# Altium footprint library RP2040.PcbLib: 12 footprints
Each footprint in its own frame and in the unit in brackets; x right, y up, seen from the top. Pads: shape width x height; smd on the part's side, far side on the other; paste and mask are expansions set on the pad; w line width, h text height; cw(c..) or ccw(c..) is an arc to the next point about the centre after c.
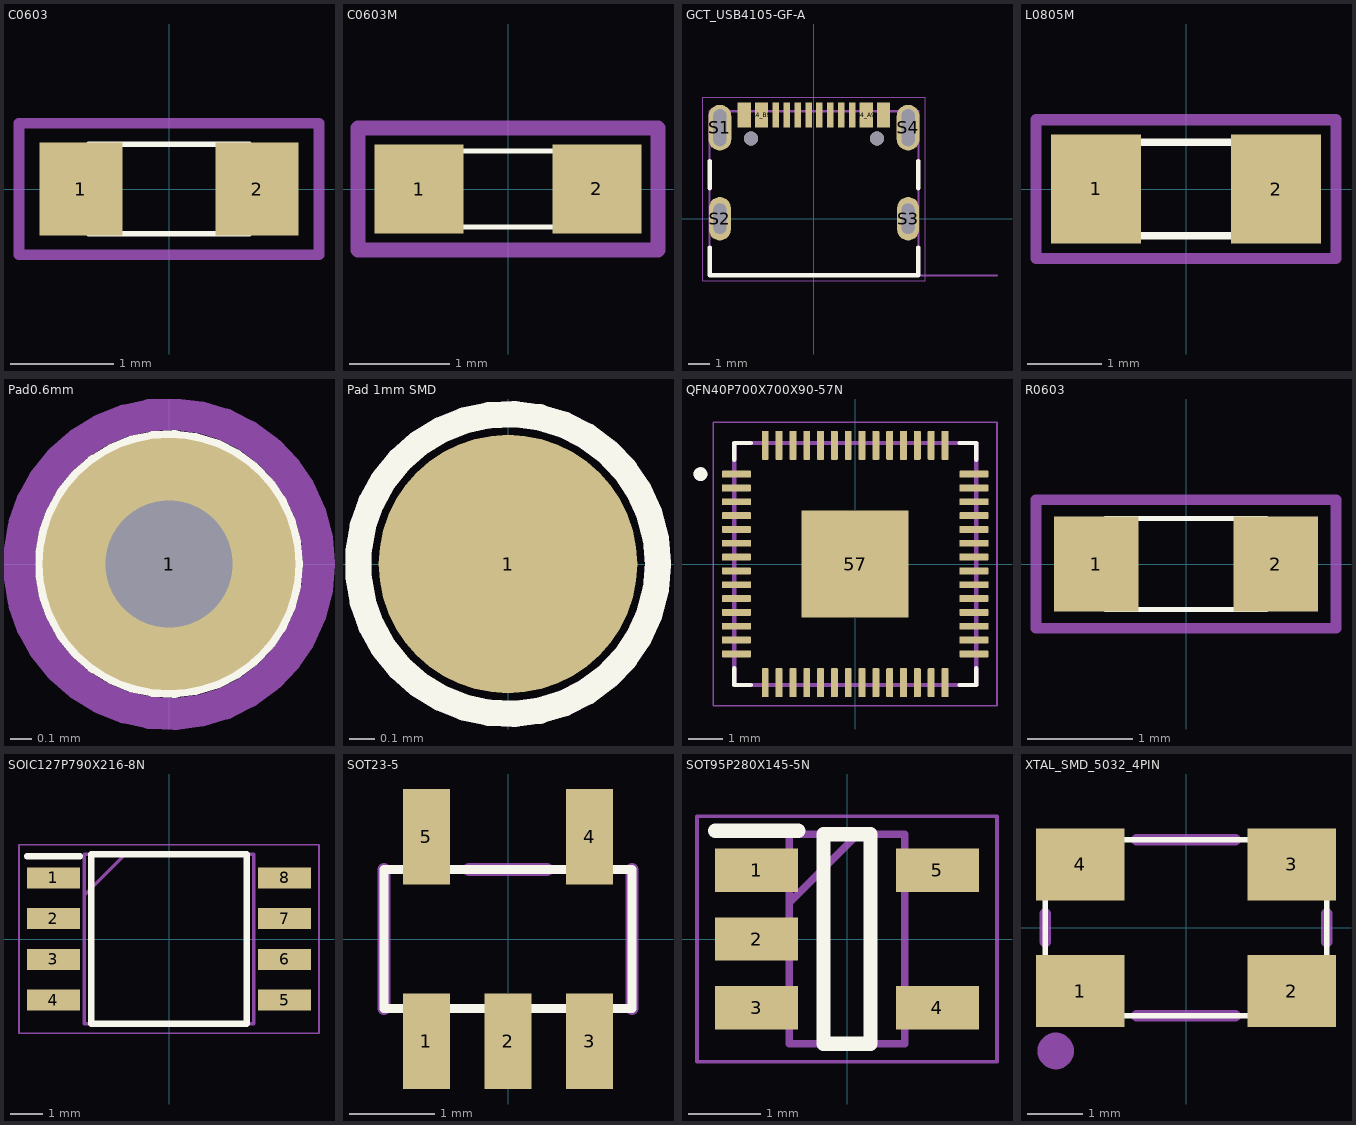
[diagram p0: the footprints below, top view; thin cyan lines are the x and y axes]

## C0603 [mm] "Chip Capacitor 0603"
height 1.1
pads (2):
  rect 0.8x0.9 smd: 1(-0.85,0) 2(0.85,0)
Top Overlay:
  lines w0.051: -0.775,-0.432 0.775,-0.432 0.775,0.432 -0.775,0.432 -0.775,-0.432
Mechanical 17:
  lines w0.102: -1.448,-0.635 -1.448,0.635 1.448,0.635 1.448,-0.635 -1.448,-0.635
  text ".Designator" at -0.723,0.635 h0.64
3D body "User Library-cap_0603_lowprofile.STEP": height 0.6, standoff 0, extent -0.8,-0.4 0.8,0.4

## C0603M [mil]
pads (2):
  rect 35x35 smd mask+2: 1(-35,0) 2(35,0)
Top Overlay:
  lines w2: -30,-15 -30,15 30,15 30,-15 -30,-15
Mechanical 17:
  lines w6: -59,-24 59,-24 59,24 -59,24 -59,-24
  text ".Designator" at -55,35 h30
3D body "User Library-CAP_0603.step": height 35.43, standoff 0, extent -31.49,-15.75 31.5,15.75

## GCT_USB4105-GF-A [mm]
pads (18):
  rect 0.6x1.15 smd: A1_B12(-3.2,4.755) A4_B9(-2.4,4.755) B1_A12(3.2,4.755) B4_A9(2.4,4.755)
  rect 0.3x1.15 smd: A5(-1.25,4.755) A6(-0.25,4.755) A7(0.25,4.755) A8(1.25,4.755) B5(1.75,4.755) B6(0.75,4.755) B7(-0.75,4.755) B8(-1.75,4.755)
  oval 1.05x2.1 hole 0.6 slot 1.7 at 90 deg: S1(-4.32,4.18) S4(4.32,4.18)
  oval 1x2 hole 0.6 slot 1.4 at 90 deg: S2(-4.32,0) S3(4.32,0)
  round 0.65 hole 0.65 unplated: ""(-2.89,3.68) ""(2.89,3.68)
Top Overlay:
  lines w0.2: -4.79,-1.32 -4.79,-2.6 4.79,-2.6 4.79,-1.32 ; -4.79,1.4 -4.79,2.65 ; 4.79,1.4 4.79,2.65
Mechanical 13:
  lines w0.1: 4.8,-2.6 8.4,-2.6 ; -4.79,-2.6 -4.79,4.93 4.79,4.93 4.79,-2.6 -4.79,-2.6
Mechanical 15:
  lines w0.05: -5.1,-2.85 5.1,-2.85 5.1,5.58 -5.1,5.58 -5.1,-2.85
3D body "step_temp.STEP": height 3.31, standoff -0.85, extent -4.79,-3.855 4.79,3.855

## L0805M [mil] "Chip inductor 0805"
pads (2):
  rect 48x58 smd: 1(-48,0) 2(48,0)
Top Overlay:
  lines w4: -40,-25 40,-25 40,25 -40,25 -40,-25
Mechanical 17:
  lines w6: -80,-37 80,-37 80,37 -80,37 -80,-37
  text ".Designator" at -45,49 h30
3D body "User Library-Inductor_0805.step": height 51.18, standoff 0, extent -39.37,-23.62 39.37,23.62

## Pad0.6mm [mm] "Pad (neosazuje se)"
pads (1):
  round 1.2 hole 0.6: 1(0,0)
Top Overlay:
  circle w0.051: c0,0 r0.305
  circle w0.102: c0,0 r0.584
Mechanical 1:
  circle w0.025: c0,0 r0.3
Top Courtyard:
  circle w0: c0,0 r0.6
Mechanical 17:
  circle w0.152: c0,0 r0.711
  text ".Designator" at -2.409,1.086 h0.8

## Pad 1mm SMD [mm] "Pad (neosazuje se)"
pads (1):
  round 1 smd mask+0.051: 1(0,0)
Top Overlay:
  circle w0.102: c0,0 r0.58
Mechanical 17:
  circle w0.1: c0,0 r0.58
  text ".Designator" at -0.838,0.965 h0.8

## QFN40P700X700X90-57N [mm]
pads (57):
  rrect25% 0.84x0.2 smd: 1(-3.435,2.6) 2(-3.435,2.2) 3(-3.435,1.8) 4(-3.435,1.4) 5(-3.435,1) 6(-3.435,0.6) 7(-3.435,0.2) 8(-3.435,-0.2) 9(-3.435,-0.6) 10(-3.435,-1) 11(-3.435,-1.4) 12(-3.435,-1.8) 13(-3.435,-2.2) 14(-3.435,-2.6) 29(3.435,-2.6) 30(3.435,-2.2) 31(3.435,-1.8) 32(3.435,-1.4) 33(3.435,-1) 34(3.435,-0.6) 35(3.435,-0.2) 36(3.435,0.2) 37(3.435,0.6) 38(3.435,1) 39(3.435,1.4) 40(3.435,1.8) 41(3.435,2.2) 42(3.435,2.6)
  rrect25% 0.2x0.84 smd: 15(-2.6,-3.435) 16(-2.2,-3.435) 17(-1.8,-3.435) 18(-1.4,-3.435) 19(-1,-3.435) 20(-0.6,-3.435) 21(-0.2,-3.435) 22(0.2,-3.435) 23(0.6,-3.435) 24(1,-3.435) 25(1.4,-3.435) 26(1.8,-3.435) 27(2.2,-3.435) 28(2.6,-3.435) 43(2.6,3.435) 44(2.2,3.435) 45(1.8,3.435) 46(1.4,3.435) 47(1,3.435) 48(0.6,3.435) 49(0.2,3.435) 50(-0.2,3.435) 51(-0.6,3.435) 52(-1,3.435) 53(-1.4,3.435) 54(-1.8,3.435) 55(-2.2,3.435) 56(-2.6,3.435)
  rect 3.1x3.1 smd paste-0.57: 57(0,0)
Top Overlay:
  circle w0.2: c-4.475,2.6 r0.1
  lines w0.127: -3.5,-3.02 -3.5,-3.5 -3.02,-3.5 ; -3.5,3.02 -3.5,3.5 -3.02,3.5 ; 3.02,-3.5 3.5,-3.5 3.5,-3.02 ; 3.02,3.5 3.5,3.5 3.5,3.02
Mechanical 13:
  circle w0.2: c-4.475,2.6 r0.1
  lines w0.127: -3.5,-3.5 3.5,-3.5 3.5,3.5 -3.5,3.5 -3.5,-3.5
Mechanical 15:
  lines w0.05: -4.105,-4.105 4.105,-4.105 4.105,4.105 -4.105,4.105 -4.105,-4.105
3D body "step_temp.STEP": height 0.9, standoff 0, extent -3.876,-3.876 3.876,3.876

## R0603 [mm] "Chip Resistor 0603"
height 1.1
pads (2):
  rect 0.8x0.9 smd: 1(-0.85,0) 2(0.85,0)
Top Overlay:
  lines w0.051: -0.762,-0.432 0.762,-0.432 0.762,0.432 -0.762,0.432 -0.762,-0.432
Mechanical 17:
  lines w0.102: -1.422,-0.61 -1.422,0.61 1.422,0.61 1.422,-0.61 -1.422,-0.61
  text ".Designator" at -0.686,0.813 h0.64
3D body "User Library-res0603-1.STEP": height 0.4, standoff 0, extent -0.8,-0.4 0.8,0.4

## SOIC127P790X216-8N [mm]
pads (8):
  rect 1.65x0.65 smd: 1(-3.6,1.905) 2(-3.6,0.635) 3(-3.6,-0.635) 4(-3.6,-1.905) 5(3.6,-1.905) 6(3.6,-0.635) 7(3.6,0.635) 8(3.6,1.905)
Top Overlay:
  lines w0.2: -4.425,2.58 -2.775,2.58 ; -2.425,-2.64 -2.425,2.64 2.425,2.64 2.425,-2.64 -2.425,-2.64
Mechanical 13:
  lines w0.1: -2.64,1.37 -1.37,2.64 ; -2.64,-2.64 -2.64,2.64 2.64,2.64 2.64,-2.64 -2.64,-2.64
Mechanical 15:
  lines w0.05: -4.675,-2.94 -4.675,2.94 4.675,2.94 4.675,-2.94 -4.675,-2.94
3D body "W25Q64JVSSIQ.stp": height 2.16, standoff 0, extent -3.95,-2.64 3.95,2.64

## SOT23-5 [mil] "0,95 rozteè, 0,4mm mezera, 2.9x1,6mm"
pads (5):
  rect 21.65x44 smd mask+2: 1(-37.5,-47) 2(0,-47) 3(37.5,-47) 4(37.5,47) 5(-37.5,47)
Top Overlay:
  lines w4: -45.5,-32 -45.5,-56 -29.5,-56 -29.5,-32 ; -45.5,32 -45.5,56 -29.5,56 -29.5,32 ; -8,-32 -8,-56 8,-56 8,-32 ; 29.5,-32 29.5,-56 45.5,-56 45.5,-32 ; 29.5,32 29.5,56 45.5,56 45.5,32 ; -57,-32 57,-32 57,32 -57,32 -57,-32
Mechanical 17:
  lines w6: -57,-32 -57,32 ; -18,32 18,32 ; 57,-32 57,32
  text ".Designator" at -81,-74 h27.56
3D body "User Library-SOT-23-5.STEP": height 56.69, standoff -0.8, extent -59.06,-58.43 59.05,59.68

## SOT95P280X145-5N [mm]
pads (5):
  rect 1.15x0.6 smd: 1(-1.25,0.95) 2(-1.25,0) 3(-1.25,-0.95) 4(1.25,-0.95) 5(1.25,0.95)
Top Overlay:
  lines w0.2: -1.825,1.5 -0.675,1.5 ; -0.325,-1.45 0.325,-1.45 0.325,1.45 -0.325,1.45 -0.325,-1.45
Mechanical 13:
  lines w0.1: -0.8,0.5 0.15,1.45 ; -0.8,-1.45 0.8,-1.45 0.8,1.45 -0.8,1.45 -0.8,-1.45
Mechanical 15:
  lines w0.05: -2.075,-1.7 2.075,-1.7 2.075,1.7 -2.075,1.7 -2.075,-1.7
3D body "MIC3490-3.0YM5-TR.stp": height 1.45, standoff 0, extent -1.4,-1.45 1.4,1.45

## XTAL_SMD_5032_4PIN [mil]
pads (4):
  rect 63x51 smd: 1(-75,-45) 2(75,-45) 3(75,45) 4(-75,45)
Top Overlay:
  region: -100,-62.5 -82.5,-62.5 -100,-45
  lines w4: -100,-42.5 -80,-62.5 ; -100,-62.5 -100,62.5 100,62.5 100,-62.5 -100,-62.5
  text "1" at -83,-48 h15.62
  text "4" at -82.5,37.5 h15.62
  text "2" at 70,-52.5 h15.62
  text "3" at 69,36 h15.62
Mechanical 17:
  circle w16: c-92.5,-87.5 r5
  lines w8: -100,-10 -100,10 ; -35,-62.5 35,-62.5 ; -35,62.5 35,62.5 ; 100,-10 100,10
  text ".Designator" at -65,90 h39.37
3D body "User Library-Crystal_5032_ABM3B.STEP": height 43.64, standoff 0.45, extent -98.43,-63 98.42,62.98